# Altium schematic symbol library Student_Board.SCHLIB: 37 symbols
Pins are listed as number, name and electrical type; pins without a type are passive.

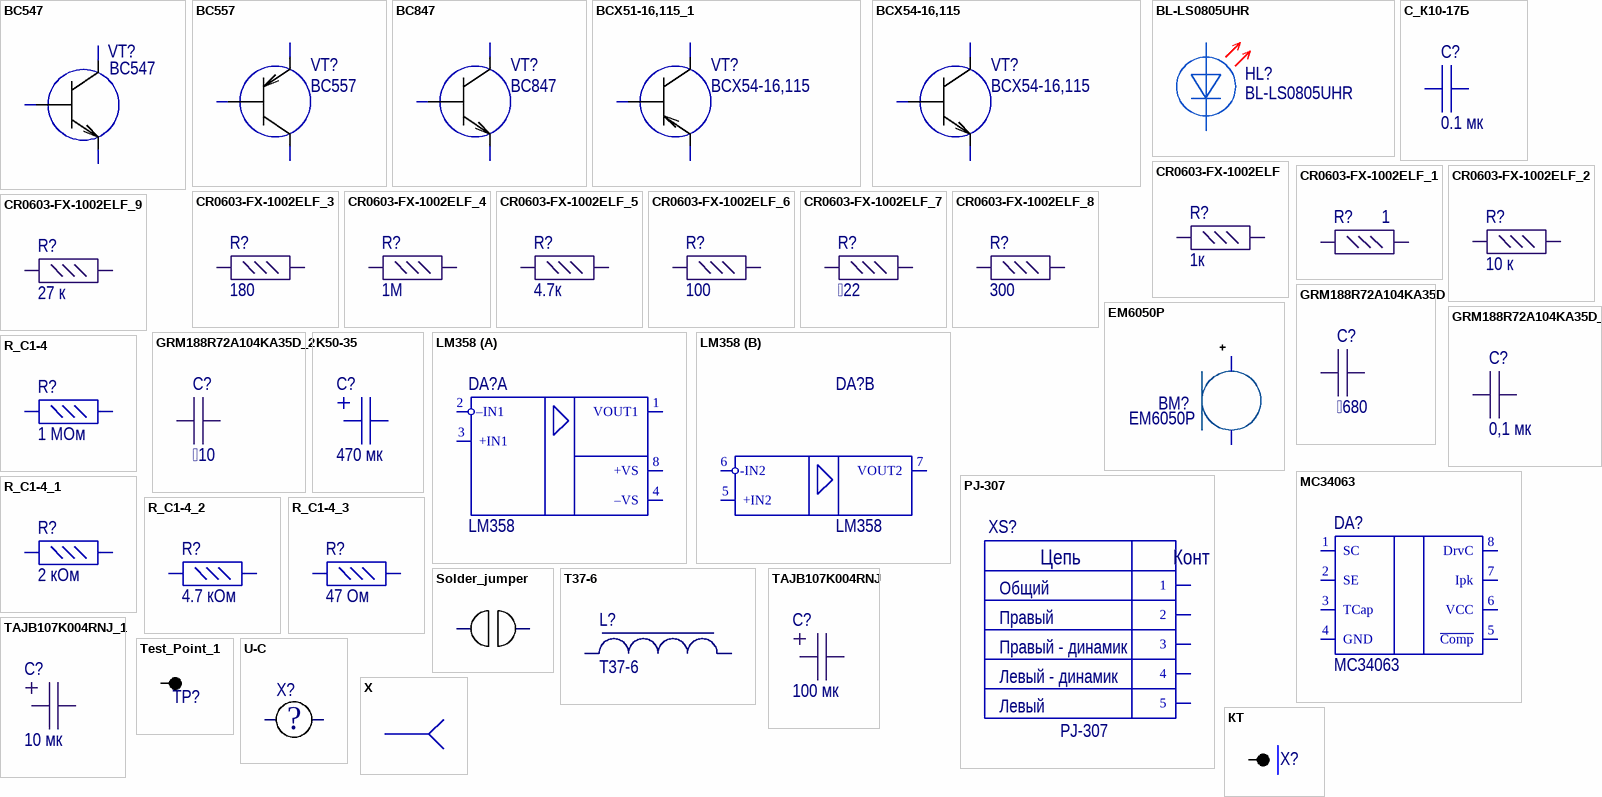
[diagram p0: symbols BC547 to КТ]

## BC547
designator VT?
footprint КТ-26 (Аналог TO-92 // Масса не более 1г //  LIV)
pins: 1 C, 2 B, 3 E

## BC557
designator VT?
footprint КТ-26 (Аналог TO-92 // Масса не более 1г //  LIV)
pins: 1 C, 2 B, 3 E

## BC847
designator VT?
footprint SOT23 (SOT23, 3-Leads, Body 2,90x2,45mm, Pitch 0,95mm, IPC Medium Density)
pins: 1 B, 2 E, 3 C

## BCX51-16,115_1
designator VT?, comment BCX54-16,115
footprint SOT89 (SOT89, 3-Leads, Body 4.50x2.45mm, Pitch 1.50mm, Lead Span 4.1mm, IPC Medium Density)
pins: 1 B, 2 C, 3 E

## BCX54-16,115
designator VT?
footprint SOT89 (SOT89, 3-Leads, Body 4.50x2.45mm, Pitch 1.50mm, Lead Span 4.1mm, IPC Medium Density)
pins: 1 B, 2 C, 3 E

## BL-LS0805UHR
designator HL?
footprint LED_0805_RED
pins: 1, 2

## C_К10-17Б
designator C?, comment 0.1 мк
footprint К10-17Б
pins: 1, 2

## CR0603-FX-1002ELF
designator R?, comment 1к
RES SMD 10K OHM 1% 1/10W 0603; Part Number: CR0603-FX-1002ELF; Manufacturer: Bourns Inc.; Value: 10 к; ComponentLink1URL: https://www.bourns.com/pdfs/chpreztr.pdf; ComponentLink1Description: Datasheet; Component Type: Resistor
footprint R_0603
footprint R_0805 (Chip Resistor, 2-Leads, Body 2,10x1,30mm, IPC Medium Density)
pins: 1, 2

## CR0603-FX-1002ELF_1
designator R?, comment 1
RES SMD 10K OHM 1% 1/10W 0603; Part Number: CR0603-FX-1002ELF; Manufacturer: Bourns Inc.; Value: 10 к; ComponentLink1URL: https://www.bourns.com/pdfs/chpreztr.pdf; ComponentLink1Description: Datasheet; Component Type: Resistor
footprint R_0603
footprint R_0805 (Chip Resistor, 2-Leads, Body 2,10x1,30mm, IPC Medium Density)
pins: 1, 2

## CR0603-FX-1002ELF_2
designator R?, comment 10 к
RES SMD 10K OHM 1% 1/10W 0603; Part Number: CR0603-FX-1002ELF; Manufacturer: Bourns Inc.; Value: 10 к; ComponentLink1URL: https://www.bourns.com/pdfs/chpreztr.pdf; ComponentLink1Description: Datasheet; Component Type: Resistor
footprint R_0603
footprint R_0805 (Chip Resistor, 2-Leads, Body 2,10x1,30mm, IPC Medium Density)
pins: 1, 2

## CR0603-FX-1002ELF_3
designator R?, comment 180
RES SMD 10K OHM 1% 1/10W 0603; Part Number: CR0603-FX-1002ELF; Manufacturer: Bourns Inc.; Value: 10 к; ComponentLink1URL: https://www.bourns.com/pdfs/chpreztr.pdf; ComponentLink1Description: Datasheet; Component Type: Resistor
footprint R_0603
footprint R_0805 (Chip Resistor, 2-Leads, Body 2,10x1,30mm, IPC Medium Density)
pins: 1, 2

## CR0603-FX-1002ELF_4
designator R?, comment 1М
RES SMD 10K OHM 1% 1/10W 0603; Part Number: CR0603-FX-1002ELF; Manufacturer: Bourns Inc.; Value: 10 к; ComponentLink1URL: https://www.bourns.com/pdfs/chpreztr.pdf; ComponentLink1Description: Datasheet; Component Type: Resistor
footprint R_0603
footprint R_0805 (Chip Resistor, 2-Leads, Body 2,10x1,30mm, IPC Medium Density)
pins: 1, 2

## CR0603-FX-1002ELF_5
designator R?, comment 4.7к
RES SMD 10K OHM 1% 1/10W 0603; Part Number: CR0603-FX-1002ELF; Manufacturer: Bourns Inc.; Value: 10 к; ComponentLink1URL: https://www.bourns.com/pdfs/chpreztr.pdf; ComponentLink1Description: Datasheet; Component Type: Resistor
footprint R_0603
footprint R_0805 (Chip Resistor, 2-Leads, Body 2,10x1,30mm, IPC Medium Density)
pins: 1, 2

## CR0603-FX-1002ELF_6
designator R?, comment 100
RES SMD 10K OHM 1% 1/10W 0603; Part Number: CR0603-FX-1002ELF; Manufacturer: Bourns Inc.; Value: 10 к; ComponentLink1URL: https://www.bourns.com/pdfs/chpreztr.pdf; ComponentLink1Description: Datasheet; Component Type: Resistor
footprint R_0603
footprint R_0805 (Chip Resistor, 2-Leads, Body 2,10x1,30mm, IPC Medium Density)
pins: 1, 2

## CR0603-FX-1002ELF_7
designator R?, comment 22
RES SMD 10K OHM 1% 1/10W 0603; Part Number: CR0603-FX-1002ELF; Manufacturer: Bourns Inc.; Value: 10 к; ComponentLink1URL: https://www.bourns.com/pdfs/chpreztr.pdf; ComponentLink1Description: Datasheet; Component Type: Resistor
footprint R_0603
footprint R_0805 (Chip Resistor, 2-Leads, Body 2,10x1,30mm, IPC Medium Density)
pins: 1, 2

## CR0603-FX-1002ELF_8
designator R?, comment 300
RES SMD 10K OHM 1% 1/10W 0603; Part Number: CR0603-FX-1002ELF; Manufacturer: Bourns Inc.; Value: 10 к; ComponentLink1URL: https://www.bourns.com/pdfs/chpreztr.pdf; ComponentLink1Description: Datasheet; Component Type: Resistor
footprint R_0603
footprint R_0805 (Chip Resistor, 2-Leads, Body 2,10x1,30mm, IPC Medium Density)
pins: 1, 2

## CR0603-FX-1002ELF_9
designator R?, comment 27 к
RES SMD 10K OHM 1% 1/10W 0603; Part Number: CR0603-FX-1002ELF; Manufacturer: Bourns Inc.; Value: 10 к; ComponentLink1URL: https://www.bourns.com/pdfs/chpreztr.pdf; ComponentLink1Description: Datasheet; Component Type: Resistor
footprint R_0603
footprint R_0805 (Chip Resistor, 2-Leads, Body 2,10x1,30mm, IPC Medium Density)
pins: 1, 2

## EM6050P
designator BM?
footprint EM6050P
pins: 1, 2

## GRM188R72A104KA35D
designator C?, comment 680
CAP CER 0.1UF 100V X7R 0603; Part Number: GRM188R72A104KA35D; Manufacturer: Murata Electronics; Value: 0.1µF; ComponentLink1URL: https://www.murata.com/~/media/webrenewal/support/library/catalog/products/capacitor/mlcc/c02e.ashx?la=en-us; ComponentLink1Description: Datasheet; Component Type: Capasitor
footprint C_0603
footprint C_0805 (Chip Capacitor, 2-Leads, Body 2,00x1,25mm, IPC Medium Density)
pins: 1, 2

## GRM188R72A104KA35D_1
designator C?, comment 0,1 мк
CAP CER 0.1UF 100V X7R 0603; Part Number: GRM188R72A104KA35D; Manufacturer: Murata Electronics; Value: 0.1µF; ComponentLink1URL: https://www.murata.com/~/media/webrenewal/support/library/catalog/products/capacitor/mlcc/c02e.ashx?la=en-us; ComponentLink1Description: Datasheet; Component Type: Capasitor
footprint C_0603
footprint C_0805 (Chip Capacitor, 2-Leads, Body 2,00x1,25mm, IPC Medium Density)
pins: 1, 2

## GRM188R72A104KA35D_2
designator C?, comment 10
CAP CER 0.1UF 100V X7R 0603; Part Number: GRM188R72A104KA35D; Manufacturer: Murata Electronics; Value: 0.1µF; ComponentLink1URL: https://www.murata.com/~/media/webrenewal/support/library/catalog/products/capacitor/mlcc/c02e.ashx?la=en-us; ComponentLink1Description: Datasheet; Component Type: Capasitor
footprint C_0603
footprint C_0805 (Chip Capacitor, 2-Leads, Body 2,00x1,25mm, IPC Medium Density)
pins: 1, 2

## K50-35
designator C?, comment 470 мк
footprint К50-35
footprint К50-35 - 8x11.5
pins: 1, 2

## LM358
designator DA?
footprint SO-8 (SOIC, 8-Leads, Body 4,90x3,90mm, Pitch 1,27mm, IPC Medium Density)
part A pins: 1 VOUT1, 2 –IN1, 3 +IN1, 4 –VS, 8 +VS
part B pins: 5 +IN2, 6 -IN2, 7 VOUT2

## MC34063
designator DA?
footprint SO-8 (SOIC, 8-Leads, Body 4,90x3,90mm, Pitch 1,27mm, IPC Medium Density)
pins: 1 SC, 2 SE, 3 TCap, 4 GND, 5 ~{Comp}, 6 VCC, 7 Ipk, 8 DrvC

## PJ-307
designator XS?
footprint PJ-307
pins: 1, 2, 3, 4, 5
text: Цепь; Конт; Общий; Правый; Правый - динамик; Левый - динамик; Левый

## R_C1-4
designator R?, comment 1 МОм
footprint С1-4 (С2-33(Н)-0,125; ОМЛТ-0,125; C2-10-0,125 // Масса 0,15 г // Трубка ТВ-40,2 белая высшего сорта ГОСТ 19034-82; UMI)
pins: 1, 2

## R_C1-4_1
designator R?, comment 2 кОм
footprint С1-4 (С2-33(Н)-0,125; ОМЛТ-0,125; C2-10-0,125 // Масса 0,15 г // Трубка ТВ-40,2 белая высшего сорта ГОСТ 19034-82; UMI)
pins: 1, 2

## R_C1-4_2
designator R?, comment 4.7 кОм
footprint С1-4 (С2-33(Н)-0,125; ОМЛТ-0,125; C2-10-0,125 // Масса 0,15 г // Трубка ТВ-40,2 белая высшего сорта ГОСТ 19034-82; UMI)
pins: 1, 2

## R_C1-4_3
designator R?, comment 47 Ом
footprint С1-4 (С2-33(Н)-0,125; ОМЛТ-0,125; C2-10-0,125 // Масса 0,15 г // Трубка ТВ-40,2 белая высшего сорта ГОСТ 19034-82; UMI)
pins: 1, 2

## Solder_jumper
designator X?  (value not drawn)
footprint Solder_jumper
pins: 1, 2

## T37-6
designator L?
footprint t37
footprint Inductor
pins: 1, 2

## TAJB107K004RNJ
designator C?, comment 100 мк
CAP TANT 100UF 10% 4V 1411; Part Number: TAJB107K004RNJ; Manufacturer: AVX Corporation; Value: 100µF; ComponentLink1URL: http://datasheets.avx.com/TAJ.pdf; ComponentLink1Description: Datasheet; Component Type: Tantalum Capacitor
footprint B_CASE
pins: 1, 2

## TAJB107K004RNJ_1
designator C?, comment 10 мк
CAP TANT 100UF 10% 4V 1411; Part Number: TAJB107K004RNJ; Manufacturer: AVX Corporation; Value: 100µF; ComponentLink1URL: http://datasheets.avx.com/TAJ.pdf; ComponentLink1Description: Datasheet; Component Type: Tantalum Capacitor
footprint B_CASE
pins: 1, 2

## Test_Point_1
designator TP?  (value not drawn)
footprint Test_point
footprint PLS-1
pins: 1

## U-C
designator X?  (value not drawn)
footprint unknown component
footprint R_0805 (Chip Resistor, 2-Leads, Body 2,10x1,30mm, IPC Medium Density)
pins: 1, 2
text: ?

## X
designator X?  (value not drawn)
Контактная площадка
footprint TH_Сontact
footprint SMD-contact
footprint KT_1
footprint PAD3x6
pins: 1

## КТ
designator X?  (value not drawn)
footprint KT
footprint KT_1
footprint KT_2
footprint PLS-1
pins: 1